# Altium schematic symbol library XT60PT-F.Schlib: 1 symbol
Pins are listed as number, name and electrical type; pins without a type are passive.

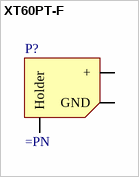
[diagram p0: symbol XT60PT-F]

## XT60PT-F
designator P?
pins: 1 +, 2 GND, 3 Holder